# Altium footprint library ERM8-020-XX.X-X-DV-L.PcbLib: 1 footprints
Each footprint in its own frame and in the unit in brackets; x right, y up, seen from the top. Pads: shape width x height; smd on the part's side, far side on the other; paste and mask are expansions set on the pad; w line width, h text height; cw(c..) or ccw(c..) is an arc to the next point about the centre after c.
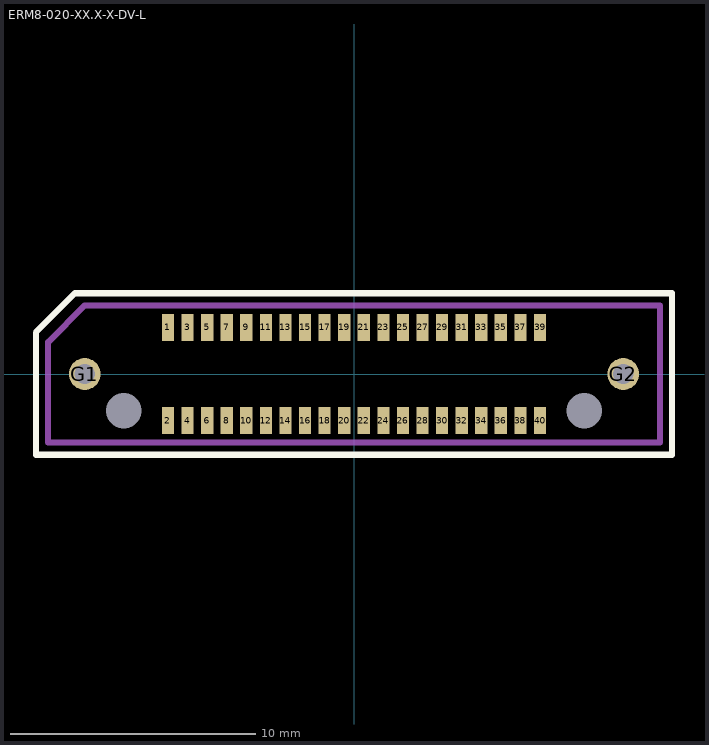
[diagram p0: the footprint, top view; thin cyan lines are the x and y axes]

## ERM8-020-XX.X-X-DV-L [mm]
pads (44):
  rect 0.5x1.1 smd mask+0.05: 1(-7.6,1.9) 2(-7.6,-1.9) 3(-6.8,1.9) 4(-6.8,-1.9) 5(-6,1.9) 6(-6,-1.9) 7(-5.2,1.9) 8(-5.2,-1.9) 9(-4.4,1.9) 10(-4.4,-1.9) 11(-3.6,1.9) 12(-3.6,-1.9) 13(-2.8,1.9) 14(-2.8,-1.9) 15(-2,1.9) 16(-2,-1.9) 17(-1.2,1.9) 18(-1.2,-1.9) 19(-0.4,1.9) 20(-0.4,-1.9) 21(0.4,1.9) 22(0.4,-1.9) 23(1.2,1.9) 24(1.2,-1.9) 25(2,1.9) 26(2,-1.9) 27(2.8,1.9) 28(2.8,-1.9) 29(3.6,1.9) 30(3.6,-1.9) 31(4.4,1.9) 32(4.4,-1.9) 33(5.2,1.9) 34(5.2,-1.9) 35(6,1.9) 36(6,-1.9) 37(6.8,1.9) 38(6.8,-1.9) 39(7.6,1.9) 40(7.6,-1.9)
  round 1.3 hole 0.83 mask+0.075: G1(-11,0) G2(11,0)
  round 0 hole 1.45 unplated: MH1(-9.4,-1.5) MH2(9.4,-1.5)
Top Overlay:
  lines w0.25: -13,-3.3 -13,1.7 -11.4,3.3 13,3.3 13,-3.3 -13,-3.3
Mechanical 1:
  lines w0.25: -12.5,-2.8 -12.5,1.3 -11,2.8 12.5,2.8 12.5,-2.8 -12.5,-2.8
  text "J1" at -0.491,-0.502 h0.75
3D body "ERM8-020-05.0-L-DV-L-TR.stp": height 8.71, standoff -1.14, extent -12.5,-2.8 12.5,2.8